# EAGLE library part DSPIC33FJ64MC804T-I/PT (library DSPIC33FJ64MC804T-I_PT)
Check availability <https://pricing.snapeda.com/parts/DSPIC33FJ64MC804T-I/PT/Microchip/view-part?ref=eda>
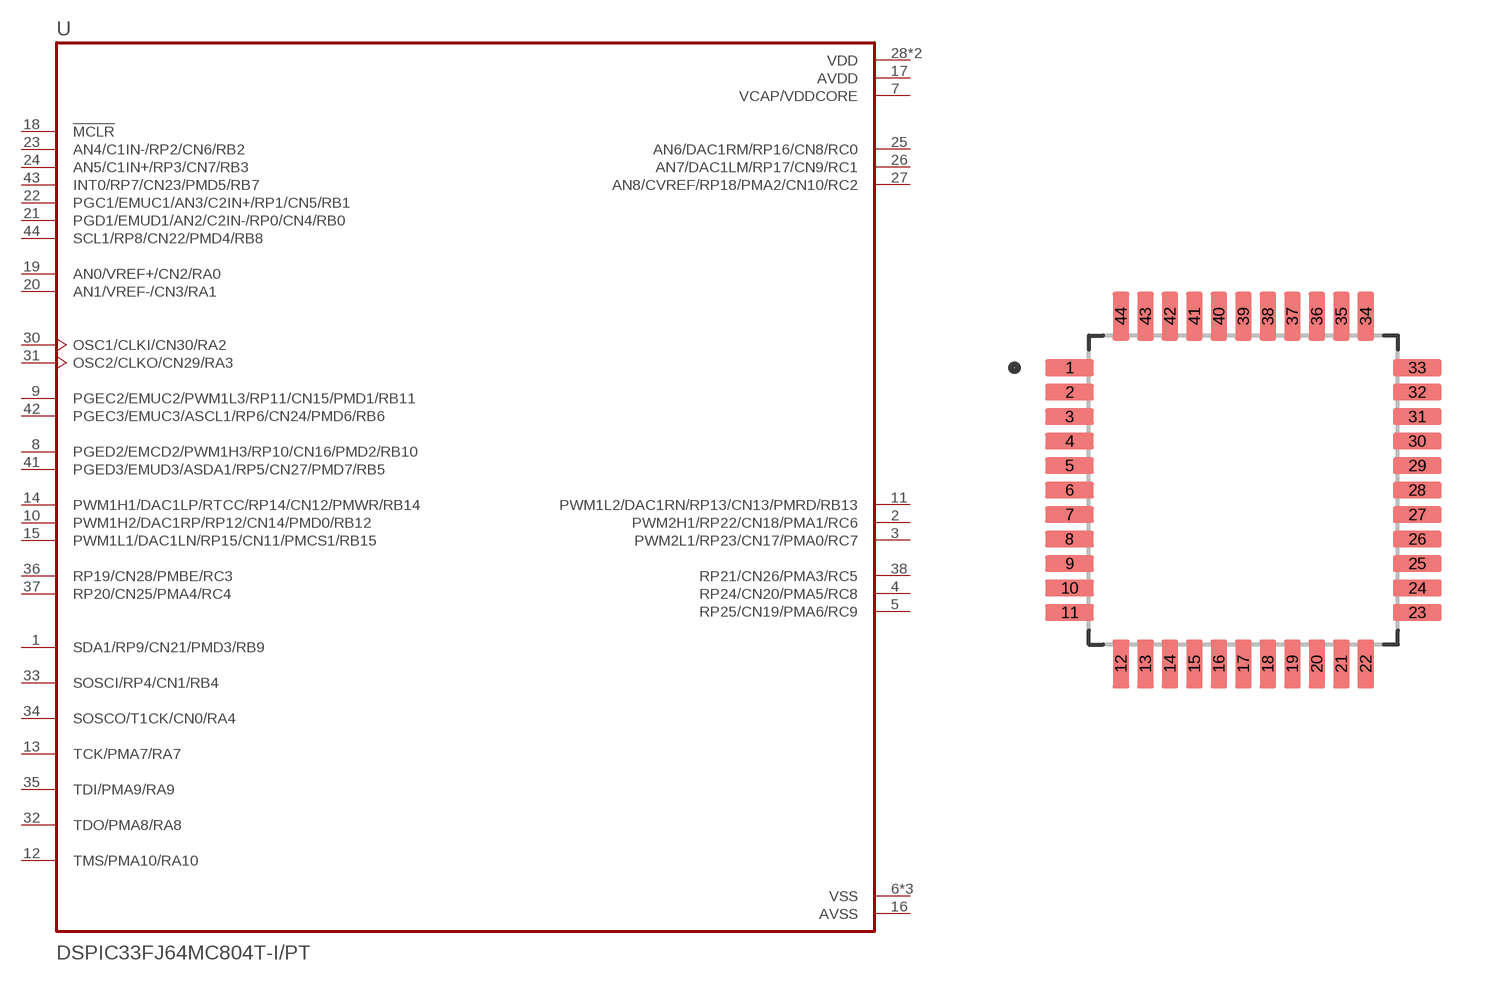
[diagram p0: symbol with the pads of QFP80P1200X1200X120-44N; footprint QFP80P1200X1200X120-44N]

Designator prefix -

## DSPIC33FJ64MC804T-I/PT (Availability: In Stock; Check_prices: https://www.snapeda.com/parts/DSPIC33FJ64MC804T-I/PT/Microchip/view-part/?ref=eda; Description: 16-bit DSC, 64KB Flash,Motor,CAN, DMA,40 MIPS,nanoWatt | Microchip Technology Inc. DSPIC33FJ64MC804T-I/PT; MF: Microchip; MP: DSPIC33FJ64MC804T-I/PT; Package: TQFP-44 Microchip; Price: None; SnapEDA_Link: https://www.snapeda.com/parts/DSPIC33FJ64MC804T-I/PT/Microchip/view-part/?ref=snap)  [QFP80P1200X1200X120-44N]
1  SDA1/RP9/CN21/PMD3/RB9
2  PWM2H1/RP22/CN18/PMA1/RC6
3  PWM2L1/RP23/CN17/PMA0/RC7
4  RP24/CN20/PMA5/RC8
5  RP25/CN19/PMA6/RC9
6  VSS  pwr
7  VCAP/VDDCORE  pwr
8  PGED2/EMCD2/PWM1H3/RP10/CN16/PMD2/RB10
9  PGEC2/EMUC2/PWM1L3/RP11/CN15/PMD1/RB11
10  PWM1H2/DAC1RP/RP12/CN14/PMD0/RB12
11  PWM1L2/DAC1RN/RP13/CN13/PMRD/RB13
12  TMS/PMA10/RA10
13  TCK/PMA7/RA7
14  PWM1H1/DAC1LP/RTCC/RP14/CN12/PMWR/RB14
15  PWM1L1/DAC1LN/RP15/CN11/PMCS1/RB15
16  AVSS  pwr
17  AVDD  pwr
18  !MCLR  in
19  AN0/VREF+/CN2/RA0
20  AN1/VREF-/CN3/RA1
21  PGD1/EMUD1/AN2/C2IN-/RP0/CN4/RB0  in
22  PGC1/EMUC1/AN3/C2IN+/RP1/CN5/RB1  in
23  AN4/C1IN-/RP2/CN6/RB2  in
24  AN5/C1IN+/RP3/CN7/RB3  in
25  AN6/DAC1RM/RP16/CN8/RC0
26  AN7/DAC1LM/RP17/CN9/RC1
27  AN8/CVREF/RP18/PMA2/CN10/RC2
28  VDD  pwr
29  VSS  pwr
30  OSC1/CLKI/CN30/RA2
31  OSC2/CLKO/CN29/RA3
32  TDO/PMA8/RA8
33  SOSCI/RP4/CN1/RB4
34  SOSCO/T1CK/CN0/RA4
35  TDI/PMA9/RA9
36  RP19/CN28/PMBE/RC3
37  RP20/CN25/PMA4/RC4
38  RP21/CN26/PMA3/RC5
39  VSS  pwr
40  VDD  pwr
41  PGED3/EMUD3/ASDA1/RP5/CN27/PMD7/RB5
42  PGEC3/EMUC3/ASCL1/RP6/CN24/PMD6/RB6
43  INT0/RP7/CN23/PMD5/RB7  in
44  SCL1/RP8/CN22/PMD4/RB8  in

## Footprint QFP80P1200X1200X120-44N (pad centres in mm)
smd 1.6 x 0.55: 1 -5.68,4; 2 -5.68,3.2; 3 -5.68,2.4; 4 -5.68,1.6; 5 -5.68,0.8; 6 -5.68,0; 7 -5.68,-0.8; 8 -5.68,-1.6; 9 -5.68,-2.4; 10 -5.68,-3.2; 11 -5.68,-4; 23 5.68,-4; 24 5.68,-3.2; 25 5.68,-2.4; 26 5.68,-1.6; 27 5.68,-0.8; 28 5.68,0; 29 5.68,0.8; 30 5.68,1.6; 31 5.68,2.4; 32 5.68,3.2; 33 5.68,4
smd 0.55 x 1.6: 12 -4,-5.68; 13 -3.2,-5.68; 14 -2.4,-5.68; 15 -1.6,-5.68; 16 -0.8,-5.68; 17 0,-5.68; 18 0.8,-5.68; 19 1.6,-5.68; 20 2.4,-5.68; 21 3.2,-5.68; 22 4,-5.68; 34 4,5.68; 35 3.2,5.68; 36 2.4,5.68; 37 1.6,5.68; 38 0.8,5.68; 39 0,5.68; 40 -0.8,5.68; 41 -1.6,5.68; 42 -2.4,5.68; 43 -3.2,5.68; 44 -4,5.68